# EAGLE library part MAX34* (library cTechnologies_integratedCircuits)
+5V, Fail-Safe, 40Mbps, Profibus RS-485/RS-422 Transceivers Source: MAX3465-MAX3469.pdf
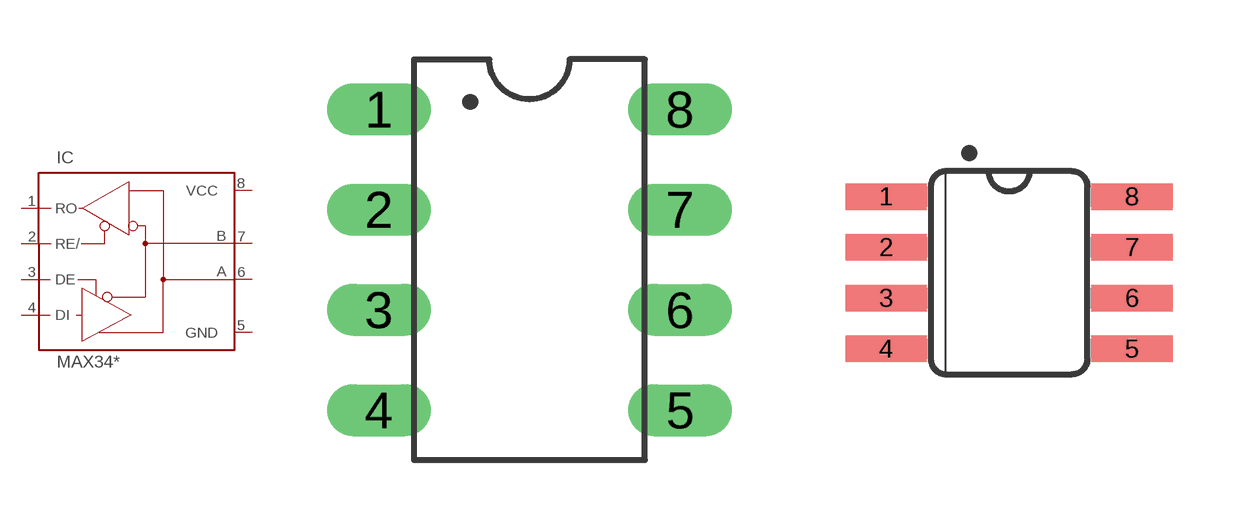
[diagram p15: symbol with the pads of DIL08; footprints DIL08, SO08]

Designator prefix IC

## MAX3468CPA (OC_FARNELL: unknown; OC_NEWARK: unknown), MAX3468EPA (MPN: MAX3468EPA+; OC_FARNELL: unknown; OC_NEWARK: 78M5804), MAX3469CPA (OC_FARNELL: unknown; OC_NEWARK: unknown), MAX3469EPA (OC_FARNELL: unknown; OC_NEWARK: unknown)  [DIL08]
1  RO  out
2  RE/  in
3  DE  in
4  DI  in
5  GND  pwr
6  A  pas
7  B  pas
8  VCC  pwr

## MAX3468CSA (MPN: MAX3468CSA+; OC_FARNELL: unknown; OC_NEWARK: 76K6721), MAX3468ESA (MPN: MAX3468ESA+T; OC_FARNELL: unknown; OC_NEWARK: 76K6724), MAX3469CSA (MPN: MAX3469CSA+; OC_FARNELL: unknown; OC_NEWARK: 05M8548), MAX3469ESA (MPN: MAX3469ESA+; OC_FARNELL: unknown; OC_NEWARK: 67K5012)  [SO08]
Pads as for DIL08

## MAX34SOIC127P600X175-8N  [SOIC127P600X175-8N]
Pads as for DIL08

## Footprint DIL08 (pad centres in mm)
Dual In Line Package
drill 0.813 long: 1 -3.81,3.81; 2 -3.81,1.27; 3 -3.81,-1.27; 4 -3.81,-3.81; 5 3.81,-3.81; 6 3.81,-1.27; 7 3.81,1.27; 8 3.81,3.81

## Footprint SO08 (pad centres in mm)
Small Outline Package SOIC 150 mil
smd 2.032 x 0.66: 1 -3.073,1.905; 2 -3.073,0.635; 3 -3.073,-0.635; 4 -3.073,-1.905; 5 3.073,-1.905; 6 3.073,-0.635; 7 3.073,0.635; 8 3.073,1.905

## Footprint SOIC127P600X175-8N (pad centres in mm)
smd 1.981 x 0.559: 1 -2.464,1.905; 2 -2.464,0.635; 3 -2.464,-0.635; 4 -2.464,-1.905; 5 2.464,-1.905; 6 2.464,-0.635; 7 2.464,0.635; 8 2.464,1.905